# EAGLE library part 52760-0379 (library miifitjr2)
MOLEX Connector SD-52760-**79 Source: 52760-1079_sd molex.pdf
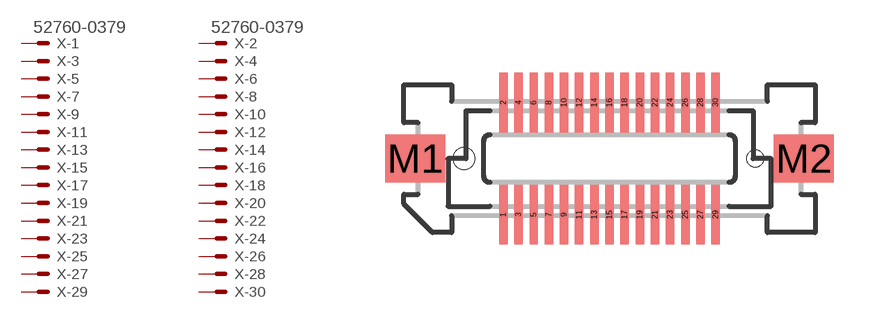
[diagram p181: symbol with the pads of 52760-0379; footprint 52760-0379]

Designator prefix X; gates -1=MV -2=MV -3=M -4=M -5=M -6=M -7=M -8=M -9=M -10=M -11=M -12=M -13=M -14=M -15=M -16=M -17=M -18=M -19=M -20=M -21=M -22=M -23=M -24=M -25=M -26=M -27=M -28=M -29=M -30=M

## 52760-0379 (MF: MOLEX; MPN: 52760-0379; OC_FARNELL: unknown; OC_NEWARK: 92M6431)  [52760-0379]
1  -1:S  pas
2  -2:S  pas
3  -3:S  pas
4  -4:S  pas
5  -5:S  pas
6  -6:S  pas
7  -7:S  pas
8  -8:S  pas
9  -9:S  pas
10  -10:S  pas
11  -11:S  pas
12  -12:S  pas
13  -13:S  pas
14  -14:S  pas
15  -15:S  pas
16  -16:S  pas
17  -17:S  pas
18  -18:S  pas
19  -19:S  pas
20  -20:S  pas
21  -21:S  pas
22  -22:S  pas
23  -23:S  pas
24  -24:S  pas
25  -25:S  pas
26  -26:S  pas
27  -27:S  pas
28  -28:S  pas
29  -29:S  pas
30  -30:S  pas

## Footprint 52760-0379 (pad centres in mm)
MOLEX Connector SD-52760-**79 Source: 52760-1079_sd molex.pdf
smd 0.35 x 2.5: 1 -4.445,-2.35; 2 -4.445,2.35; 3 -3.81,-2.35; 4 -3.81,2.35; 5 -3.175,-2.35; 6 -3.175,2.35; 7 -2.54,-2.35; 8 -2.54,2.35; 9 -1.905,-2.35; 10 -1.905,2.35; 11 -1.27,-2.35; 12 -1.27,2.35; 13 -0.635,-2.35; 14 -0.635,2.35; 15 0,-2.35; 16 0,2.35; 17 0.635,-2.35; 18 0.635,2.35; 19 1.27,-2.35; 20 1.27,2.35; 21 1.905,-2.35; 22 1.905,2.35; 23 2.54,-2.35; 24 2.54,2.35; 25 3.175,-2.35; 26 3.175,2.35; 27 3.81,-2.35; 28 3.81,2.35; 29 4.445,-2.35; 30 4.445,2.35
smd 2.5 x 2: M1 -8.137,0; M2 8.137,0
hole 0.9 at -6.098,0
hole 0.7 at 6.098,0